# EAGLE library part MAX44009EDT (library samuel)
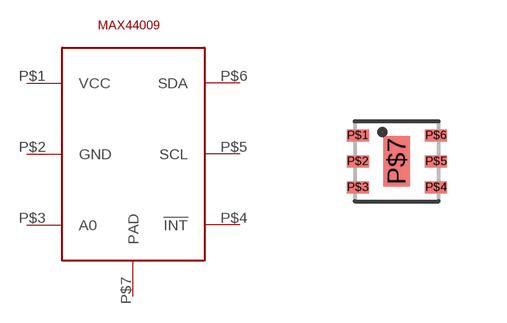
[diagram p2: symbol with the pads of ODFN6; footprint ODFN6]

Designator prefix -

## MAX44009EDT  [ODFN6]
P$1  VCC
P$2  GND
P$3  A0
P$4  !INT
P$5  SCL
P$6  SDA
P$7  PAD

## Footprint ODFN6 (pad centres in mm)
smd 0.55 x 0.3: P$1 -0.98,0.65; P$2 -0.98,0; P$3 -0.98,-0.65; P$4 0.98,-0.65; P$5 0.98,0; P$6 0.98,0.65
smd 0.66 x 1.27: P$7 0,0